# Altium schematic symbol library jumper.SchLib: 1 symbol
Pins are listed as number, name and electrical type; pins without a type are passive.

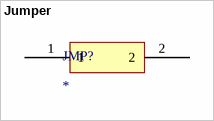
[diagram p0: symbol Jumper]

## Jumper
designator JMP?
footprint jumper
pins: 1, 2